# EAGLE library part INA219(SOIC8) (library __MyCommonLib1)
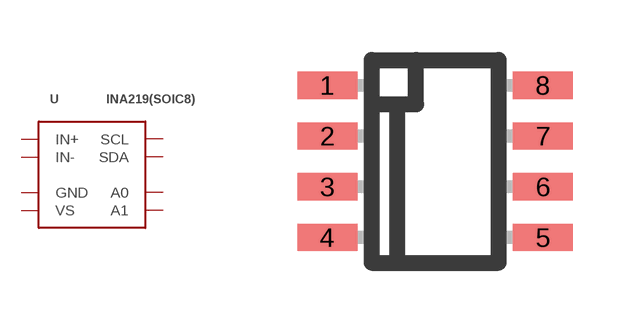
[diagram p28: symbol with the pads of SOIC8; footprint SOIC8]

Designator prefix -

## INA219(SOIC8)(SOIC8)  [SOIC8]
1  IN+
2  IN-
3  GND
4  VS
5  SCL
6  SDA
7  A0
8  A1

## Footprint SOIC8 (pad centres in mm)
smd 1.5 x 0.68: 1 -2.699,1.905; 2 -2.699,0.635; 3 -2.699,-0.635; 4 -2.699,-1.905; 5 2.699,-1.905; 6 2.699,-0.635; 7 2.699,0.635; 8 2.699,1.905